# EAGLE library part EB2-5NU (library SamacSysImported)
Miniature Signal Relay Source: Datasheet <https://componentsearchengine.com/Datasheets/1/EB2-5NU.pdf>
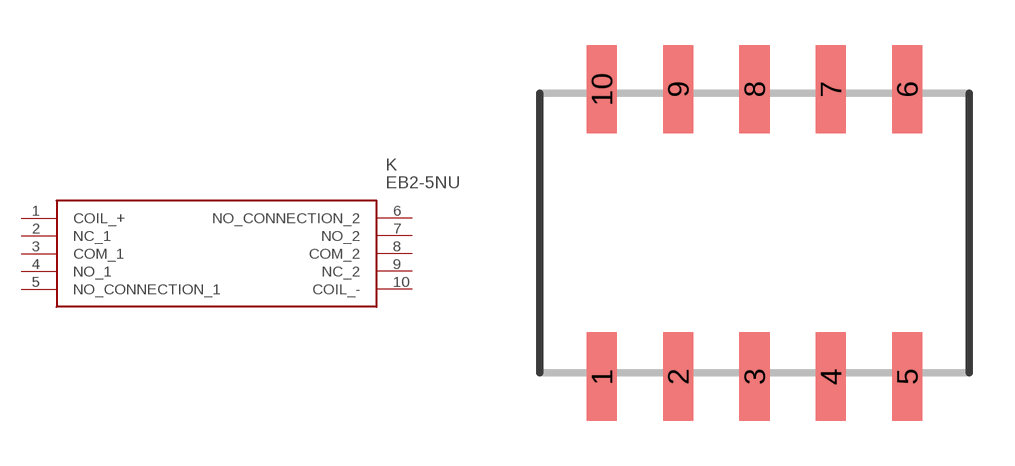
[diagram p1: symbol with the pads of EB2-5NU; footprint EB2-5NU]

Designator prefix K

## EB2-5NU (Description: Miniature Signal Relay; Height: mm; Manufacturer_Name: TOKIN; Manufacturer_Part_Number: EB2-5NU)  [EB2-5NU]
1  COIL_+
2  NC_1
3  COM_1
4  NO_1
5  NO_CONNECTION_1
6  NO_CONNECTION_2
7  NO_2
8  COM_2
9  NC_2
10  COIL_-

## Footprint EB2-5NU (pad centres in mm)
EB2-NU
smd 1 x 2.94: 1 -5.08,-4.78; 2 -2.54,-4.78; 3 0,-4.78; 4 2.54,-4.78; 5 5.08,-4.78; 6 5.08,4.78; 7 2.54,4.78; 8 0,4.78; 9 -2.54,4.78; 10 -5.08,4.78